# Altium footprint library PCB1.PcbLib: 3 footprints
Each footprint in its own frame and in the unit in brackets; x right, y up, seen from the top. Pads: shape width x height; smd on the part's side, far side on the other; paste and mask are expansions set on the pad; w line width, h text height; cw(c..) or ccw(c..) is an arc to the next point about the centre after c.
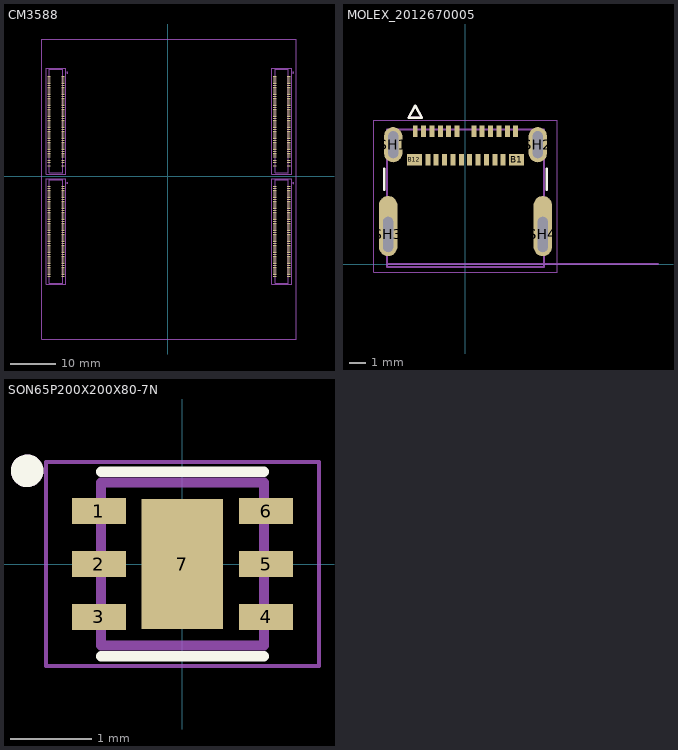
[diagram p0: the footprints below, top view; thin cyan lines are the x and y axes]

## CM3588 [mm]
pads (400):
  rect 0.7x0.2 smd: 1(-22.884,21.851) 2(-25.964,21.851) 3(-22.884,21.451) 4(-25.964,21.451) 5(-22.884,21.051) 6(-25.964,21.051) 7(-22.884,20.651) 8(-25.964,20.651) 9(-22.884,20.251) 10(-25.964,20.251) 11(-22.884,19.851) 12(-25.964,19.851) 13(-22.884,19.451) 14(-25.964,19.451) 15(-22.884,19.051) 16(-25.964,19.051) 17(-22.884,18.651) 18(-25.964,18.651) 19(-22.884,18.251) 20(-25.964,18.251) 21(-22.884,17.851) 22(-25.964,17.851) 23(-22.884,17.451) 24(-25.964,17.451) 25(-22.884,17.051) 26(-25.964,17.051) 27(-22.884,16.651) 28(-25.964,16.651) 29(-22.884,16.251) 30(-25.964,16.251) 31(-22.884,15.851) 32(-25.964,15.851) 33(-22.884,15.451) 34(-25.964,15.451) 35(-22.884,15.051) 36(-25.964,15.051) 37(-22.884,14.651) 38(-25.964,14.651) 39(-22.884,14.251) 40(-25.964,14.251) 41(-22.884,13.851) 42(-25.964,13.851) 43(-22.884,13.451) 44(-25.964,13.451) 45(-22.884,13.051) 46(-25.964,13.051) 47(-22.884,12.651) 48(-25.964,12.651) 49(-22.884,12.251) 50(-25.964,12.251) 51(-22.884,11.851) 52(-25.964,11.851) 53(-22.884,11.451) 54(-25.964,11.451) 55(-22.884,11.051) 56(-25.964,11.051) 57(-22.884,10.651) 58(-25.964,10.651) 59(-22.884,10.251) 60(-25.964,10.251) 61(-22.884,9.851) 62(-25.964,9.851) 63(-22.884,9.451) 64(-25.964,9.451) 65(-22.884,9.051) 66(-25.964,9.051) 67(-22.884,8.651) 68(-25.964,8.651) 69(-22.884,8.251) 70(-25.964,8.251) 71(-22.884,7.851) 72(-25.964,7.851) 73(-22.884,7.451) 74(-25.964,7.451) 75(-22.884,7.051) 76(-25.964,7.051) 77(-22.884,6.651) 78(-25.964,6.651) 79(-22.884,6.251) 80(-25.964,6.251) 81(-22.884,5.851) 82(-25.964,5.851) 83(-22.884,5.451) 84(-25.964,5.451) 85(-22.884,5.051) 86(-25.964,5.051) 87(-22.884,4.651) 88(-25.964,4.651) 89(-22.884,4.251) 90(-25.964,4.251) 91(-22.884,3.851) 92(-25.964,3.851) 93(-22.884,3.451) 94(-25.964,3.451) 95(-22.884,3.051) 96(-25.964,3.051) 97(-22.884,2.651) 98(-25.964,2.651) 99(-22.884,2.251) 100(-25.964,2.251) 101(26.406,21.851) 102(23.326,21.851) 103(26.406,21.451) 104(23.326,21.451) 105(26.406,21.051) 106(23.326,21.051) 107(26.406,20.651) 108(23.326,20.651) 109(26.406,20.251) 110(23.326,20.251) 111(26.406,19.851) 112(23.326,19.851) 113(26.406,19.451) 114(23.326,19.451) 115(26.406,19.051) 116(23.326,19.051) 117(26.406,18.651) 118(23.326,18.651) 119(26.406,18.251) 120(23.326,18.251) 121(26.406,17.851) 122(23.326,17.851) 123(26.406,17.451) 124(23.326,17.451) 125(26.406,17.051) 126(23.326,17.051) 127(26.406,16.651) 128(23.326,16.651) 129(26.406,16.251) 130(23.326,16.251) 131(26.406,15.851) 132(23.326,15.851) 133(26.406,15.451) 134(23.326,15.451) 135(26.406,15.051) 136(23.326,15.051) 137(26.406,14.651) 138(23.326,14.651) 139(26.406,14.251) 140(23.326,14.251) 141(26.406,13.851) 142(23.326,13.851) 143(26.406,13.451) 144(23.326,13.451) 145(26.406,13.051) 146(23.326,13.051) 147(26.406,12.651) 148(23.326,12.651) 149(26.406,12.251) 150(23.326,12.251) 151(26.406,11.851) 152(23.326,11.851) 153(26.406,11.451) 154(23.326,11.451) 155(26.406,11.051) 156(23.326,11.051) 157(26.406,10.651) 158(23.326,10.651) 159(26.406,10.251) 160(23.326,10.251) 161(26.406,9.851) 162(23.326,9.851) 163(26.406,9.451) 164(23.326,9.451) 165(26.406,9.051) 166(23.326,9.051) 167(26.406,8.651) 168(23.326,8.651) 169(26.406,8.251) 170(23.326,8.251) 171(26.406,7.851) 172(23.326,7.851) 173(26.406,7.451) 174(23.326,7.451) 175(26.406,7.051) 176(23.326,7.051) 177(26.406,6.651) 178(23.326,6.651) 179(26.406,6.251) 180(23.326,6.251) 181(26.406,5.851) 182(23.326,5.851) 183(26.406,5.451) 184(23.326,5.451) 185(26.406,5.051) 186(23.326,5.051) 187(26.406,4.651) 188(23.326,4.651) 189(26.406,4.251) 190(23.326,4.251) 191(26.406,3.851) 192(23.326,3.851) 193(26.406,3.451) 194(23.326,3.451) 195(26.406,3.051) 196(23.326,3.051) 197(26.406,2.651) 198(23.326,2.651) 199(26.406,2.251) 200(23.326,2.251) 201(-22.884,-2.251) 202(-25.964,-2.251) 203(-22.884,-2.651) 204(-25.964,-2.651) 205(-22.884,-3.051) 206(-25.964,-3.051) 207(-22.884,-3.451) 208(-25.964,-3.451) 209(-22.884,-3.851) 210(-25.964,-3.851) 211(-22.884,-4.251) 212(-25.964,-4.251) 213(-22.884,-4.651) 214(-25.964,-4.651) 215(-22.884,-5.051) 216(-25.964,-5.051) 217(-22.884,-5.451) 218(-25.964,-5.451) 219(-22.884,-5.851) 220(-25.964,-5.851) 221(-22.884,-6.251) 222(-25.964,-6.251) 223(-22.884,-6.651) 224(-25.964,-6.651) 225(-22.884,-7.051) 226(-25.964,-7.051) 227(-22.884,-7.451) 228(-25.964,-7.451) 229(-22.884,-7.851) 230(-25.964,-7.851) 231(-22.884,-8.251) 232(-25.964,-8.251) 233(-22.884,-8.651) 234(-25.964,-8.651) 235(-22.884,-9.051) 236(-25.964,-9.051) 237(-22.884,-9.451) 238(-25.964,-9.451) 239(-22.884,-9.851) 240(-25.964,-9.851) 241(-22.884,-10.251) 242(-25.964,-10.251) 243(-22.884,-10.651) 244(-25.964,-10.651) 245(-22.884,-11.051) 246(-25.964,-11.051) 247(-22.884,-11.451) 248(-25.964,-11.451) 249(-22.884,-11.851) 250(-25.964,-11.851) 251(-22.884,-12.251) 252(-25.964,-12.251) 253(-22.884,-12.651) 254(-25.964,-12.651) 255(-22.884,-13.051) 256(-25.964,-13.051) 257(-22.884,-13.451) 258(-25.964,-13.451) 259(-22.884,-13.851) 260(-25.964,-13.851) 261(-22.884,-14.251) 262(-25.964,-14.251) 263(-22.884,-14.651) 264(-25.964,-14.651) 265(-22.884,-15.051) 266(-25.964,-15.051) 267(-22.884,-15.451) 268(-25.964,-15.451) 269(-22.884,-15.851) 270(-25.964,-15.851) 271(-22.884,-16.251) 272(-25.964,-16.251) 273(-22.884,-16.651) 274(-25.964,-16.651) 275(-22.884,-17.051) 276(-25.964,-17.051) 277(-22.884,-17.451) 278(-25.964,-17.451) 279(-22.884,-17.851) 280(-25.964,-17.851) 281(-22.884,-18.251) 282(-25.964,-18.251) 283(-22.884,-18.651) 284(-25.964,-18.651) 285(-22.884,-19.051) 286(-25.964,-19.051) 287(-22.884,-19.451) 288(-25.964,-19.451) 289(-22.884,-19.851) 290(-25.964,-19.851) 291(-22.884,-20.251) 292(-25.964,-20.251) 293(-22.884,-20.651) 294(-25.964,-20.651) 295(-22.884,-21.051) 296(-25.964,-21.051) 297(-22.884,-21.451) 298(-25.964,-21.451) 299(-22.884,-21.851) 300(-25.964,-21.851) 301(26.406,-2.251) 302(23.326,-2.251) 303(26.406,-2.651) 304(23.326,-2.651) 305(26.406,-3.051) 306(23.326,-3.051) 307(26.406,-3.451) 308(23.326,-3.451) 309(26.406,-3.851) 310(23.326,-3.851) 311(26.406,-4.251) 312(23.326,-4.251) 313(26.406,-4.651) 314(23.326,-4.651) 315(26.406,-5.051) 316(23.326,-5.051) 317(26.406,-5.451) 318(23.326,-5.451) 319(26.406,-5.851) 320(23.326,-5.851) 321(26.406,-6.251) 322(23.326,-6.251) 323(26.406,-6.651) 324(23.326,-6.651) 325(26.406,-7.051) 326(23.326,-7.051) 327(26.406,-7.451) 328(23.326,-7.451) 329(26.406,-7.851) 330(23.326,-7.851) 331(26.406,-8.251) 332(23.326,-8.251) 333(26.406,-8.651) 334(23.326,-8.651) 335(26.406,-9.051) 336(23.326,-9.051) 337(26.406,-9.451) 338(23.326,-9.451) 339(26.406,-9.851) 340(23.326,-9.851) 341(26.406,-10.251) 342(23.326,-10.251) 343(26.406,-10.651) 344(23.326,-10.651) 345(26.406,-11.051) 346(23.326,-11.051) 347(26.406,-11.451) 348(23.326,-11.451) 349(26.406,-11.851) 350(23.326,-11.851) 351(26.406,-12.251) 352(23.326,-12.251) 353(26.406,-12.651) 354(23.326,-12.651) 355(26.406,-13.051) 356(23.326,-13.051) 357(26.406,-13.451) 358(23.326,-13.451) 359(26.406,-13.851) 360(23.326,-13.851) 361(26.406,-14.251) 362(23.326,-14.251) 363(26.406,-14.651) 364(23.326,-14.651) 365(26.406,-15.051) 366(23.326,-15.051) 367(26.406,-15.451) 368(23.326,-15.451) 369(26.406,-15.851) 370(23.326,-15.851) 371(26.406,-16.251) 372(23.326,-16.251) 373(26.406,-16.651) 374(23.326,-16.651) 375(26.406,-17.051) 376(23.326,-17.051) 377(26.406,-17.451) 378(23.326,-17.451) 379(26.406,-17.851) 380(23.326,-17.851) 381(26.406,-18.251) 382(23.326,-18.251) 383(26.406,-18.651) 384(23.326,-18.651) 385(26.406,-19.051) 386(23.326,-19.051) 387(26.406,-19.451) 388(23.326,-19.451) 389(26.406,-19.851) 390(23.326,-19.851) 391(26.406,-20.251) 392(23.326,-20.251) 393(26.406,-20.651) 394(23.326,-20.651) 395(26.406,-21.051) 396(23.326,-21.051) 397(26.406,-21.451) 398(23.326,-21.451) 399(26.406,-21.851) 400(23.326,-21.851)
Mid-Layer 4:
  circle w0.254: c-24.289,-32.237 r1.6
  circle w0.254: c-24.255,26.769 r1.6
  circle w0.254: c24.733,26.792 r1.6
  circle w0.254: c24.758,-32.212 r1.6
Mid-Layer 9:
  circle w0.254: c-24.289,-32.237 r3
  circle w0.254: c-24.255,26.769 r3
  circle w0.254: c24.733,26.792 r3
  circle w0.254: c24.758,-32.212 r3
  region: -23.819,-29.265 -23.36,-29.375 -22.923,-29.556 -22.521,-29.803 -22.162,-30.109 -21.855,-30.468 -21.608,-30.871 -21.427,-31.307 -21.317,-31.766 -21.28,-32.237 -21.317,-32.708 -21.427,-33.167 -21.608,-33.603 -21.855,-34.006 -22.162,-34.365 -22.521,-34.672 -22.923,-34.918 -23.36,-35.099 -23.819,-35.209 -24.289,-35.246 -24.76,-35.209 -25.219,-35.099 -25.656,-34.918 -26.058,-34.672 -26.417,-34.365 -26.724,-34.006 -26.971,-33.603 -27.151,-33.167 -27.262,-32.708 -27.299,-32.237 -27.262,-31.766 -27.151,-31.307 -26.971,-30.871 -26.724,-30.468 -26.417,-30.109 -26.058,-29.803 -25.656,-29.556 -25.219,-29.375 -24.76,-29.265 -24.289,-29.228
  region: -23.784,29.741 -23.325,29.631 -22.889,29.45 -22.486,29.203 -22.127,28.896 -21.82,28.537 -21.574,28.135 -21.393,27.698 -21.283,27.239 -21.246,26.769 -21.283,26.298 -21.393,25.839 -21.574,25.402 -21.82,25 -22.127,24.641 -22.486,24.334 -22.889,24.087 -23.325,23.907 -23.784,23.796 -24.255,23.759 -24.726,23.796 -25.185,23.907 -25.621,24.087 -26.024,24.334 -26.383,24.641 -26.69,25 -26.936,25.402 -27.117,25.839 -27.227,26.298 -27.264,26.769 -27.227,27.239 -27.117,27.698 -26.936,28.135 -26.69,28.537 -26.383,28.896 -26.024,29.203 -25.621,29.45 -25.185,29.631 -24.726,29.741 -24.255,29.778
  region: 25.203,29.765 25.662,29.654 26.099,29.474 26.501,29.227 26.86,28.92 27.167,28.561 27.414,28.159 27.595,27.722 27.705,27.263 27.742,26.792 27.705,26.322 27.595,25.863 27.414,25.426 27.167,25.024 26.86,24.665 26.501,24.358 26.099,24.111 25.662,23.93 25.203,23.82 24.733,23.783 24.262,23.82 23.803,23.93 23.366,24.111 22.964,24.358 22.605,24.665 22.298,25.024 22.051,25.426 21.871,25.863 21.76,26.322 21.723,26.792 21.76,27.263 21.871,27.722 22.051,28.159 22.298,28.561 22.605,28.92 22.964,29.227 23.366,29.474 23.803,29.654 24.262,29.765 24.733,29.802
  region: 25.229,-29.24 25.688,-29.35 26.124,-29.53 26.527,-29.777 26.886,-30.084 27.193,-30.443 27.439,-30.846 27.62,-31.282 27.73,-31.741 27.767,-32.212 27.73,-32.682 27.62,-33.142 27.439,-33.578 27.193,-33.981 26.886,-34.34 26.527,-34.646 26.124,-34.893 25.688,-35.074 25.229,-35.184 24.758,-35.221 24.287,-35.184 23.828,-35.074 23.392,-34.893 22.989,-34.646 22.63,-34.34 22.323,-33.981 22.077,-33.578 21.896,-33.142 21.786,-32.682 21.749,-32.212 21.786,-31.741 21.896,-31.282 22.077,-30.846 22.323,-30.443 22.63,-30.084 22.989,-29.777 23.392,-29.53 23.828,-29.35 24.287,-29.24 24.758,-29.202
Mid-Layer 11:
  circle w0.254: c-21.944,22.651 r0.1
  circle w0.254: c-21.944,-1.451 r0.1
  circle w0.254: c27.346,22.651 r0.1
  circle w0.254: c27.346,-1.451 r0.1
  lines w0.254: -27.27,-32.223 -27.27,26.78 ; -25.864,-22.271 -25.864,-23.351 -22.984,-23.351 -22.984,-22.271 ; -25.864,-1.831 -25.864,-0.751 -22.984,-0.751 -22.984,-1.831 ; -25.864,1.831 -25.864,0.751 -22.984,0.751 -22.984,1.831 ; -25.864,22.271 -25.864,23.351 -22.984,23.351 -22.984,22.271 ; -24.272,-35.221 24.732,-35.221 ; -24.27,29.78 17.784,29.78 ; -22.972,-0.757 -22.972,-0.747 ; -22.972,23.343 -22.972,23.353 ; 17.785,29.781 24.731,29.781 ; 23.426,-22.271 23.426,-23.351 26.306,-23.351 26.306,-22.271 ; 23.426,-1.831 23.426,-0.751 26.306,-0.751 26.306,-1.831 ; 23.426,1.831 23.426,0.751 26.306,0.751 26.306,1.831 ; 23.426,22.271 23.426,23.351 26.306,23.351 26.306,22.271 ; 26.318,-0.758 26.318,-0.748 ; 26.32,23.342 26.32,23.352 ; 27.731,-32.222 27.731,26.782
  text "CON4" at 17.9,-3 h1
  text "CON3" at -20.7,-3.1 h1
  text "CON2" at 17.9,21.2 h1
  text "CON1" at -21,22 h1
Top Paste:
  drawing of 2000 lines, arcs and shapes, not listed
Mechanical 10:
  circle w0.254: c-21.944,22.651 r0.1
  circle w0.254: c-21.944,-1.451 r0.1
  circle w0.254: c27.346,22.651 r0.1
  circle w0.254: c27.346,-1.451 r0.1
  lines w0.254: -25.864,-23.351 -25.864,-0.751 -22.984,-0.751 -22.984,-23.351 -25.864,-23.351 ; -25.864,0.751 -25.864,23.351 -22.984,23.351 -22.984,0.751 -25.864,0.751 ; 23.426,-23.351 23.426,-0.751 26.306,-0.751 26.306,-23.351 23.426,-23.351 ; 23.426,0.751 23.426,23.351 26.306,23.351 26.306,0.751 23.426,0.751
  text "'.Designator'" at 23.433,7.515 h1
  text "'.Designator'" at -25.857,7.515 h1
Mechanical 12:
  lines w0.254: -27.5,-35.5 -27.5,30 28,30 28,-35.5 -27.5,-35.5 ; -26.564,-23.601 -26.564,-0.501 -22.284,-0.501 -22.284,-23.601 -26.564,-23.601 ; -26.564,0.501 -26.564,23.601 -22.284,23.601 -22.284,0.501 -26.564,0.501 ; 22.726,-23.601 22.726,-0.501 27.006,-0.501 27.006,-23.601 22.726,-23.601 ; 22.726,0.501 22.726,23.601 27.006,23.601 27.006,0.501 22.726,0.501

## MOLEX_2012670005 [mm]
pads (28):
  rect 0.298x0.7 smd mask+0.064: A1(-3,7.94) A2(-2.5,7.94) A3(-2,7.94) A4(-1.5,7.94) A5(-1,7.94) A6(-0.5,7.94) A7(0.5,7.94) A8(1,7.94) A9(1.5,7.94) A10(2,7.94) A11(2.5,7.94) A12(3,7.94) B2(2.25,6.24) B3(1.75,6.24) B4(1.25,6.24) B5(0.75,6.24) B6(0.25,6.24) B7(-0.25,6.24) B8(-0.75,6.24) B9(-1.25,6.24) B10(-1.75,6.24) B11(-2.25,6.24)
  rect 0.898x0.7 smd mask+0: B1(3.05,6.24) B12(-3.05,6.24)
  oval 1.1x2.1 hole 0.6 slot 1.6 at 90 deg mask+0.064: SH1(-4.32,7.13) SH2(4.32,7.13)
  oval 1.1x3.6 hole 0.6 slot 2.1 at 90 deg copper offset 0,0.5 mask+0.064: SH3(-4.62,1.77) SH4(4.62,1.77)
Top Overlay:
  lines w0.15: -4.845,4.45 -4.845,5.7 ; 4.845,4.45 4.845,5.7 ; -3.4,8.75 -3,9.45 -2.6,8.75 -3.4,8.75
Top Solder:
  region: 3.562,5.826 2.538,5.826 2.538,6.653 3.562,6.653
  region: -2.538,5.826 -3.562,5.826 -3.562,6.653 -2.538,6.653
Mechanical 2:
  text "'.Designator'" at 0,4.485 h0.7
Mechanical 12:
  text "PTH Slot 1.6 +/- 0.05 X 0.6 +/- 0.05" at -5.08,12.227 h0.5
  text "PTH Slot 2.1 +/- 0.05 X 0.6 +/- 0.05" at -5.08,11.592 h0.5
Mechanical 13:
  lines w0.13: 11.5,0 -4.695,0 ; -4.695,0 -4.695,8.03 4.695,8.03 4.695,-0.18 -4.695,-0.18 -4.695,0 ; -3.4,8.75 -3,9.45 -2.6,8.75 -3.4,8.75
  text "PCB Edge" at 5.5,0.27 h1
Mechanical 15:
  lines w0.01: -5.47,-0.48 -5.47,8.59 5.47,8.59 5.47,-0.48 -5.47,-0.48

## SON65P200X200X80-7N [mm]
pads (7):
  rect 0.66x0.32 smd mask+0.07: 1(-1.025,0.65)
  rect 0.66x0.32 smd mask+0.025: 2(-1.025,0) 3(-1.025,-0.65) 5(1.025,0) 6(1.025,0.65)
  rect 0.66x0.32 smd: 4(1.025,-0.65)
  rect 1x1.6 smd paste-2 mask+0.025: 7(0,0)
Top Overlay:
  circle w0.2: c-1.905,1.143 r0.1
  lines w0.127: -1,-1.13 1,-1.13 ; -1,1.13 1,1.13
Top Paste:
  region: 0.316,-0.506 -0.316,-0.506 -0.316,0.506 0.316,0.506
Mechanical 13:
  circle w0.2: c-1.905,1.143 r0.1
  lines w0.127: -1,-1 1,-1 1,1 -1,1 -1,-1
Mechanical 15:
  lines w0.05: -1.675,-1.25 1.675,-1.25 1.675,1.25 -1.675,1.25 -1.675,-1.25
3D body "step_temp.STEP": height 0.8, standoff 0, extent -1,-1 1,1